# Altium footprint library HSINK_V7477X2.PcbLib: 1 footprints
Each footprint in its own frame and in the unit in brackets; x right, y up, seen from the top. Pads: shape width x height; smd on the part's side, far side on the other; paste and mask are expansions set on the pad; w line width, h text height; cw(c..) or ccw(c..) is an arc to the next point about the centre after c.
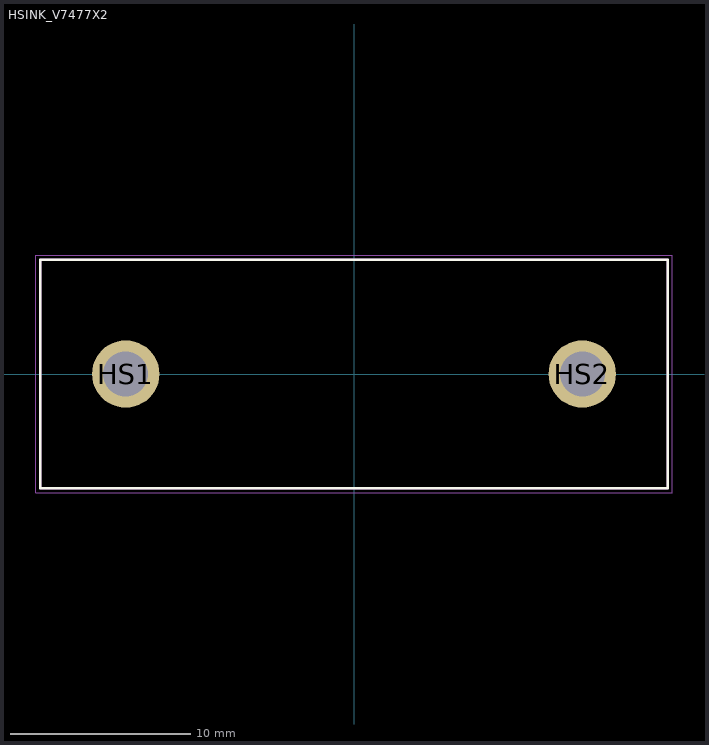
[diagram p0: the footprint, top view; thin cyan lines are the x and y axes]

## HSINK_V7477X2 [mm]
height 38.1
pads (2):
  round 3.75 hole 2.5 mask+0.102: HS1(-12.7,0) HS2(12.7,0)
Top Overlay:
  lines w0.127: -17.45,-6.35 -17.45,6.35 17.45,6.35 17.45,-6.35 -17.45,-6.35
Assembly Top:
  lines w0.127: -17.45,-6.35 -17.45,6.35 17.45,6.35 17.45,-6.35 -17.45,-6.35
Courtyard Top:
  lines w0.05: -17.7,-6.6 -17.7,6.6 17.7,6.6 17.7,-6.6 -17.7,-6.6
3D body "step_temp.STEP": height 38.1, standoff -3.8, extent -17.45,-6.35 17.45,6.35